# Altium footprint library BMA180.PcbLib: 2 footprints
Each footprint in its own frame and in the unit in brackets; x right, y up, seen from the top. Pads: shape width x height; smd on the part's side, far side on the other; paste and mask are expansions set on the pad; w line width, h text height; cw(c..) or ccw(c..) is an arc to the next point about the centre after c.
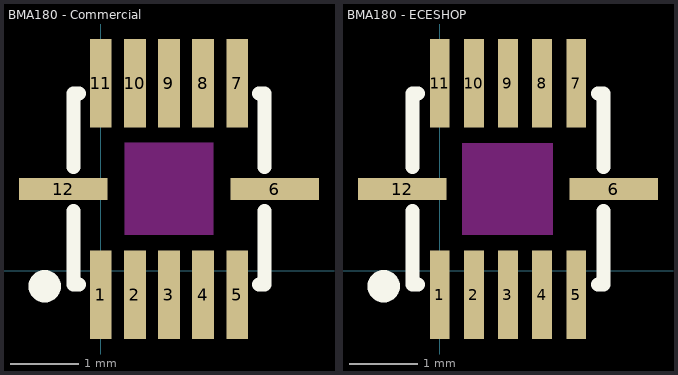
[diagram p0: the footprints below, top view; thin cyan lines are the x and y axes]

## BMA180 - Commercial [mm] "BMA180 - Commercial"
pads (12):
  rect 0.32x1.3 smd: 1(0,-0.35) 2(0.5,-0.35) 3(1,-0.35) 4(1.5,-0.35) 5(2,-0.35) 7(2,2.75) 8(1.5,2.75) 9(1,2.75) 10(0.5,2.75) 11(0,2.75)
  rect 1.3x0.32 smd: 6(2.55,1.2) 12(-0.55,1.2)
Top Overlay:
  circle w0.3: c-0.823,-0.226 r0.087
  lines w0.2: -0.4,0.88 -0.4,-0.2 -0.32,-0.2 ; -0.4,1.52 -0.4,2.6 -0.314,2.6 ; 2.32,-0.2 2.4,-0.2 2.4,0.88 ; 2.32,2.6 2.4,2.6 2.4,1.52
Keep-Out Layer:
  rectangle: 0.346,0.525 1.655,1.881

## BMA180 - ECESHOP [mm] "BMA180 - ECESHOP"
pads (12):
  rect 0.29x1.3 smd: 1(0,-0.35) 2(0.5,-0.35) 3(1,-0.35) 4(1.5,-0.35) 5(2,-0.35) 7(2,2.75) 8(1.5,2.75) 9(1,2.75) 10(0.5,2.75) 11(0,2.75)
  rect 1.3x0.32 smd: 6(2.55,1.2) 12(-0.55,1.2)
Top Overlay:
  circle w0.3: c-0.823,-0.226 r0.087
  lines w0.2: -0.4,0.88 -0.4,-0.2 -0.32,-0.2 ; -0.4,1.52 -0.4,2.6 -0.314,2.6 ; 2.32,-0.2 2.4,-0.2 2.4,0.88 ; 2.32,2.6 2.4,2.6 2.4,1.52
Keep-Out Layer:
  rectangle: 0.328,0.524 1.658,1.876